# EAGLE library part TM4C123GH6PM (library MAAV)
Designed by Jason Leung - Michigan Autonomous Aerial Vehicles - Circuits Subteam
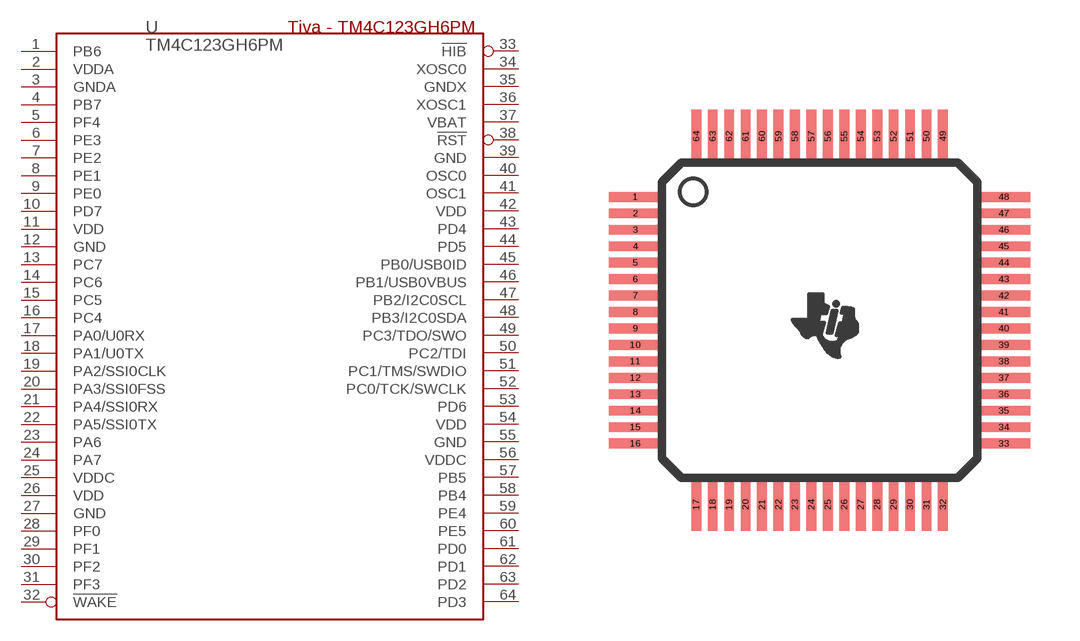
[diagram p14: symbol with the pads of TM4C123GH6PM; footprint TM4C123GH6PM]

Designator prefix -

## TM4C123GH6PM  [TM4C123GH6PM]
1  PB6
2  VDDA
3  GNDA
4  PB7
5  PF4
6  PE3
7  PE2
8  PE1
9  PE0
10  PD7
11  VDD
12  GND
13  PC7
14  PC6
15  PC5
16  PC4
17  PA0/U0RX
18  PA1/U0TX
19  PA2/SSI0CLK
20  PA3/SSI0FSS
21  PA4/SSI0RX
22  PA5/SSI0TX
23  PA6
24  PA7
25  VDDC
26  VDD
27  GND
28  PF0
29  PF1
30  PF2
31  PF3
32  !WAKE
33  !HIB
34  XOSC0
35  GNDX
36  XOSC1
37  VBAT
38  !RST
39  GND
40  OSC0
41  OSC1
42  VDD
43  PD4
44  PD5
45  PB0/USB0ID
46  PB1/USB0VBUS
47  PB2/I2C0SCL
48  PB3/I2C0SDA
49  PC3/TDO/SWO
50  PC2/TDI
51  PC1/TMS/SWDIO
52  PC0/TCK/SWCLK
53  PD6
54  VDD
55  GND
56  VDDC
57  PB5
58  PB4
59  PE4
60  PE5
61  PD0
62  PD1
63  PD2
64  PD3

## Footprint TM4C123GH6PM (pad centres in mm)
smd 1.6 x 0.3: 1 -5.6,3.75; 2 -5.6,3.25; 3 -5.6,2.75; 4 -5.6,2.25; 5 -5.6,1.75; 6 -5.6,1.25; 7 -5.6,0.75; 8 -5.6,0.25; 9 -5.6,-0.25; 10 -5.6,-0.75; 11 -5.6,-1.25; 12 -5.6,-1.75; 13 -5.6,-2.25; 14 -5.6,-2.75; 15 -5.6,-3.25; 16 -5.6,-3.75; 33 5.6,-3.75; 34 5.6,-3.25; 35 5.6,-2.75; 36 5.6,-2.25; 37 5.6,-1.75; 38 5.6,-1.25; 39 5.6,-0.75; 40 5.6,-0.25; 41 5.6,0.25; 42 5.6,0.75; 43 5.6,1.25; 44 5.6,1.75; 45 5.6,2.25; 46 5.6,2.75; 47 5.6,3.25; 48 5.6,3.75
smd 0.3 x 1.6: 17 -3.75,-5.6; 18 -3.25,-5.6; 19 -2.75,-5.6; 20 -2.25,-5.6; 21 -1.75,-5.6; 22 -1.25,-5.6; 23 -0.75,-5.6; 24 -0.25,-5.6; 25 0.25,-5.6; 26 0.75,-5.6; 27 1.25,-5.6; 28 1.75,-5.6; 29 2.25,-5.6; 30 2.75,-5.6; 31 3.25,-5.6; 32 3.75,-5.6; 49 3.75,5.6; 50 3.25,5.6; 51 2.75,5.6; 52 2.25,5.6; 53 1.75,5.6; 54 1.25,5.6; 55 0.75,5.6; 56 0.25,5.6; 57 -0.25,5.6; 58 -0.75,5.6; 59 -1.25,5.6; 60 -1.75,5.6; 61 -2.25,5.6; 62 -2.75,5.6; 63 -3.25,5.6; 64 -3.75,5.6